# Altium schematic symbol library MAX1847EEE+.SchLib: 1 symbol
Pins are listed as number, name and electrical type; pins without a type are passive.

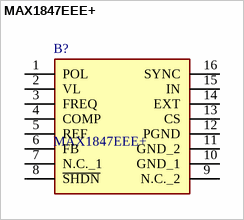
[diagram p0: symbol MAX1847EEE+]

## MAX1847EEE+
designator B?
Switching Controllers High-Efficiency, Current-Mode, Inverting PWM Controller; Manufacturer_Name: Analog Devices; Geometry.Height: 1.75mm; Mouser Part Number: 700-MAX1847EEE; Mouser Price/Stock: https://www.mouser.co.uk/ProductDetail/Maxim-Integrated/MAX1847EEE%2b/?qs=1THa7WoU59Eml5yzvNyVvA%3D%3D; Manufacturer_Part_Number: MAX1847EEE+; Datasheet Link: https://datasheet.datasheetarchive.com/originals/dk/DKDS-7/136317.pdf
footprint SOP64P602X175-16N
pins: 1 POL, 2 VL, 3 FREQ, 4 COMP, 5 REF, 6 FB, 7 N.C._1, 8 ~{SHDN}, 9 N.C._2, 10 GND_1, 11 GND_2, 12 PGND, 13 CS, 14 EXT, 15 IN, 16 SYNC